# EAGLE library part ARDUINO (library Diplomarbeit)
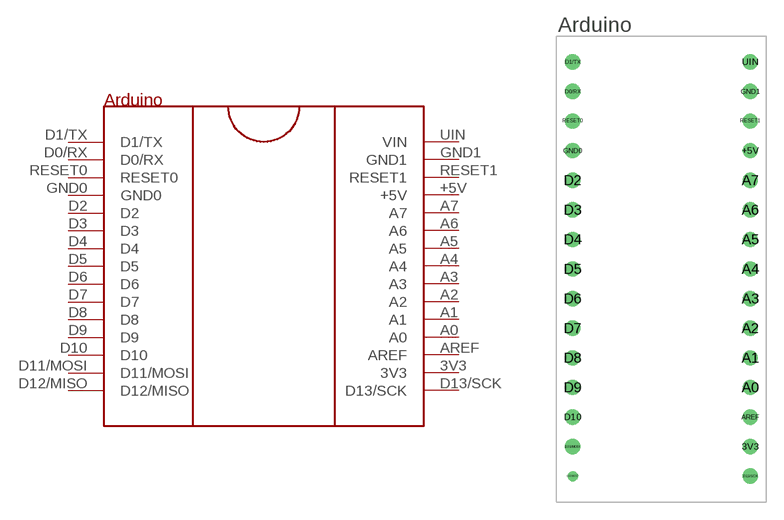
[diagram p0: symbol with the pads of ARDUINO; footprint ARDUINO]

Designator prefix -

## ARDUINO  [ARDUINO]
3V3  3V3
+5V  +5V
A0  A0
A1  A1
A2  A2
A3  A3
A4  A4
A5  A5
A6  A6
A7  A7
AREF  AREF
D0/RX  D0/RX
D1/TX  D1/TX
D2  D2
D3  D3
D4  D4
D5  D5
D6  D6
D7  D7
D8  D8
D9  D9
D10  D10
D11/MOSI  D11/MOSI
D12/MISO  D12/MISO
D13/SCK  D13/SCK
GND0  GND0
GND1  GND1
RESET0  RESET0
RESET1  RESET1
UIN  VIN

## Footprint ARDUINO (pad centres in mm)
drill 0.8: 3V3 7.62,-15.24; +5V 7.62,10.16; A0 7.62,-10.16; A1 7.62,-7.62; A2 7.62,-5.08; A3 7.62,-2.54; A4 7.62,0; A5 7.62,2.54; A6 7.62,5.08; A7 7.62,7.62; AREF 7.62,-12.7; D0/RX -7.62,15.24; D1/TX -7.62,17.78; D2 -7.62,7.62; D3 -7.62,5.08; D4 -7.62,2.54; D5 -7.62,0; D6 -7.62,-2.54; D7 -7.62,-5.08; D8 -7.62,-7.62; D9 -7.62,-10.16; D10 -7.62,-12.7; D11/MOSI -7.62,-15.24; D13/SCK 7.62,-17.78; GND0 -7.62,10.16; GND1 7.62,15.24; RESET0 -7.62,12.7; RESET1 7.62,12.7; UIN 7.62,17.78
drill 0.35: D12/MISO -7.62,-17.78